# EAGLE library part WATCHDOG (library Watchdog)
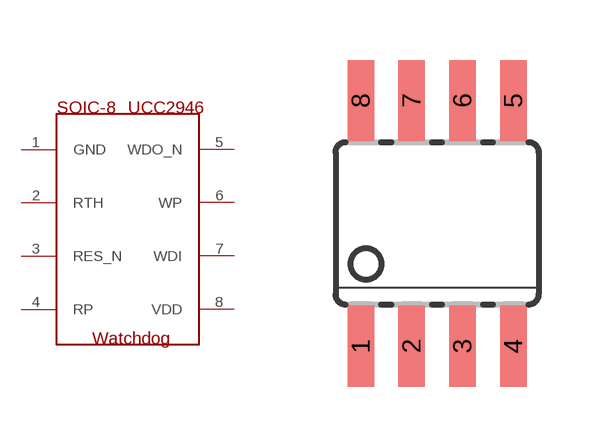
[diagram p1: symbol with the pads of SOIC08; footprint SOIC08]

Designator prefix -

## WATCHDOG  [SOIC08]
1  GND
2  RTH
3  RES_N
4  RP
5  WDO_N
6  WP
7  WDI
8  VDD

## Footprint SOIC08 (pad centres in mm)
Small Outline Package
smd 0.66 x 2.032: 1 -1.905,-3.073; 2 -0.635,-3.073; 3 0.635,-3.073; 4 1.905,-3.073; 5 1.905,3.073; 6 0.635,3.073; 7 -0.635,3.073; 8 -1.905,3.073